# Altium footprint library mechanical.PcbLib: 3 footprints
Each footprint in its own frame and in the unit in brackets; x right, y up, seen from the top. Pads: shape width x height; smd on the part's side, far side on the other; paste and mask are expansions set on the pad; w line width, h text height; cw(c..) or ccw(c..) is an arc to the next point about the centre after c.
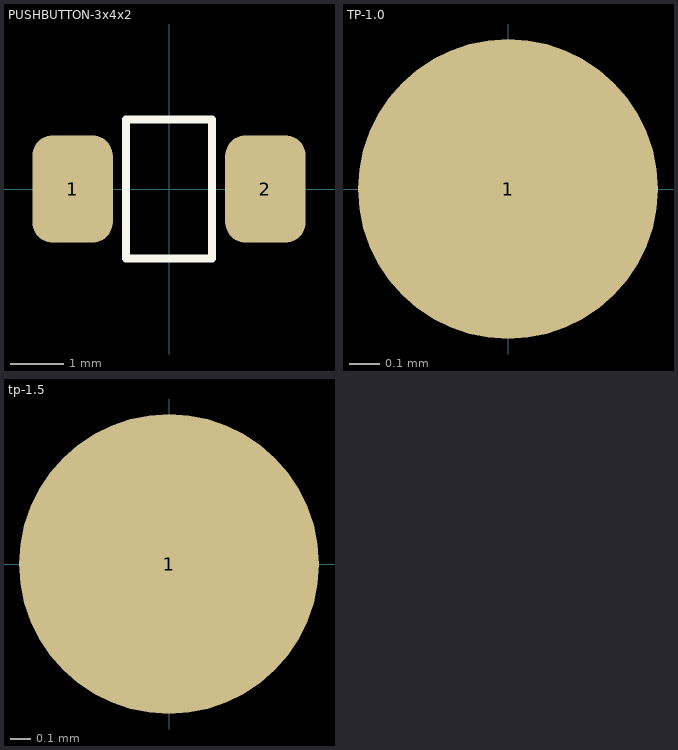
[diagram p0: the footprints below, top view; thin cyan lines are the x and y axes]

## PUSHBUTTON-3x4x2 [mm]
pads (2):
  rrect50% 1.5x2 smd paste-1: 1(-1.8,0) 2(1.8,0)
Top Overlay:
  lines w0.15: -0.8,-1.3 0.8,-1.3 0.8,1.3 -0.8,1.3 -0.8,-1.3
3D body "xb-2_0h-b.stp": height 1.96, standoff -0.04, extent -2.5,-1.475 2.5,1.475

## TP-1.0 [mm]
pads (1):
  round 1 smd paste-1: 1(0,0)

## tp-1.5 [mm]
pads (1):
  round 1.5 smd paste-2: 1(0,0)